# EAGLE library part TPS54821RHLR (library alim)
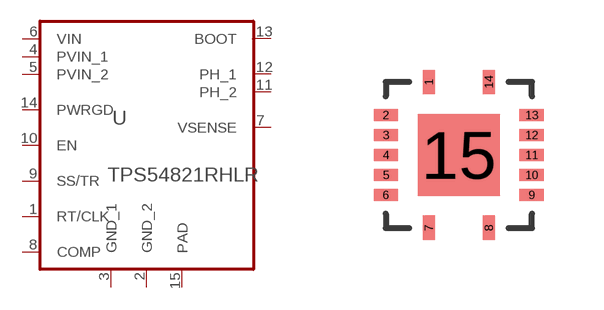
[diagram p4: symbol with the pads of S-PVQFN-N14; footprint S-PVQFN-N14]

Designator prefix -

## TPS54821RHLR (DATASHEETURL: http://www.ti.com/product/tps54821; FREQUENCY: 1600000.0; IMAX: 8.0; MANUFACTURER_NAME: Texas Instruments; MANUFACTURER_PART_NUMBER: TPS54821RHLR; MKTG_PACKAGE: S-PVQFN-N14; NSID: TPS54821RHLR; PACKAGE: S-PVQFN-N14; VENDOR: Texas Instruments)  [S-PVQFN-N14]
1  RT/CLK  pas
2  GND_2  pas
3  GND_1  pas
4  PVIN_1  pas
5  PVIN_2  pas
6  VIN  pas
7  VSENSE  pas
8  COMP  pas
9  SS/TR  pas
10  EN  pas
11  PH_2  pas
12  PH_1  pas
13  BOOT  pas
14  PWRGD  pas
15  PAD  pas

## Footprint S-PVQFN-N14 (pad centres in mm)
smd 0.305 x 0.61: 1 -0.75,1.825; 7 -0.75,-1.825; 8 0.75,-1.825; 14 0.75,1.825
smd 0.61 x 0.305: 2 -1.825,1; 3 -1.825,0.5; 4 -1.825,0; 5 -1.825,-0.5; 6 -1.825,-1; 9 1.825,-1; 10 1.825,-0.5; 11 1.825,0; 12 1.825,0.5; 13 1.825,1
smd 2.057 x 2.057: 15 0,0